# Altium footprint library FOIL_SMD.PcbLib: 1 footprints
Each footprint in its own frame and in the unit in brackets; x right, y up, seen from the top. Pads: shape width x height; smd on the part's side, far side on the other; paste and mask are expansions set on the pad; w line width, h text height; cw(c..) or ccw(c..) is an arc to the next point about the centre after c.
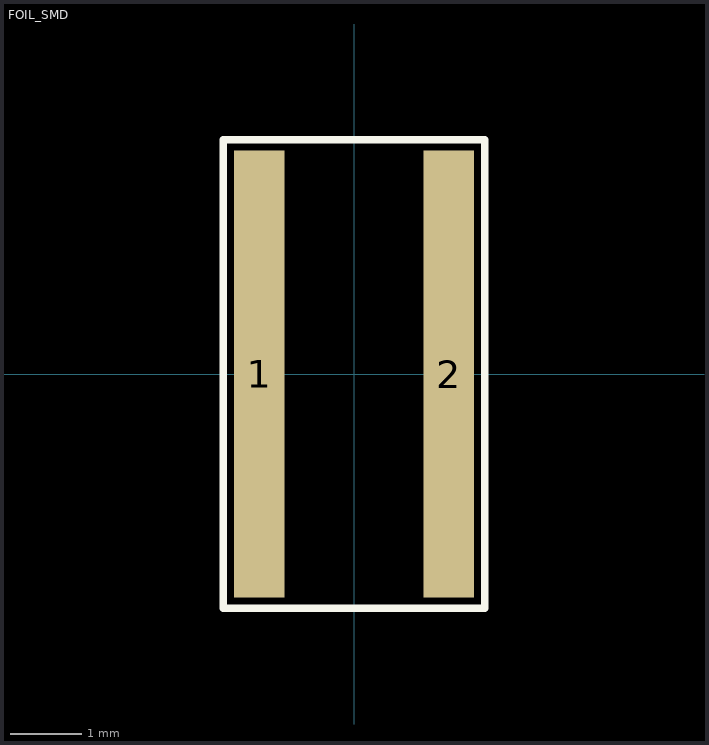
[diagram p0: the footprint, top view; thin cyan lines are the x and y axes]

## FOIL_SMD [mil]
pads (2):
  rect 28x248 smd: 1(-52.5,0) 2(52.5,0)
Top Overlay:
  lines w4: -72.5,-130 -72.5,130 72.5,130 72.5,-130 -72.5,-130